# Altium integrated library Wurth_Elektronik_Passive_rev16a.IntLib: 1143 symbols (part 25 of 28)
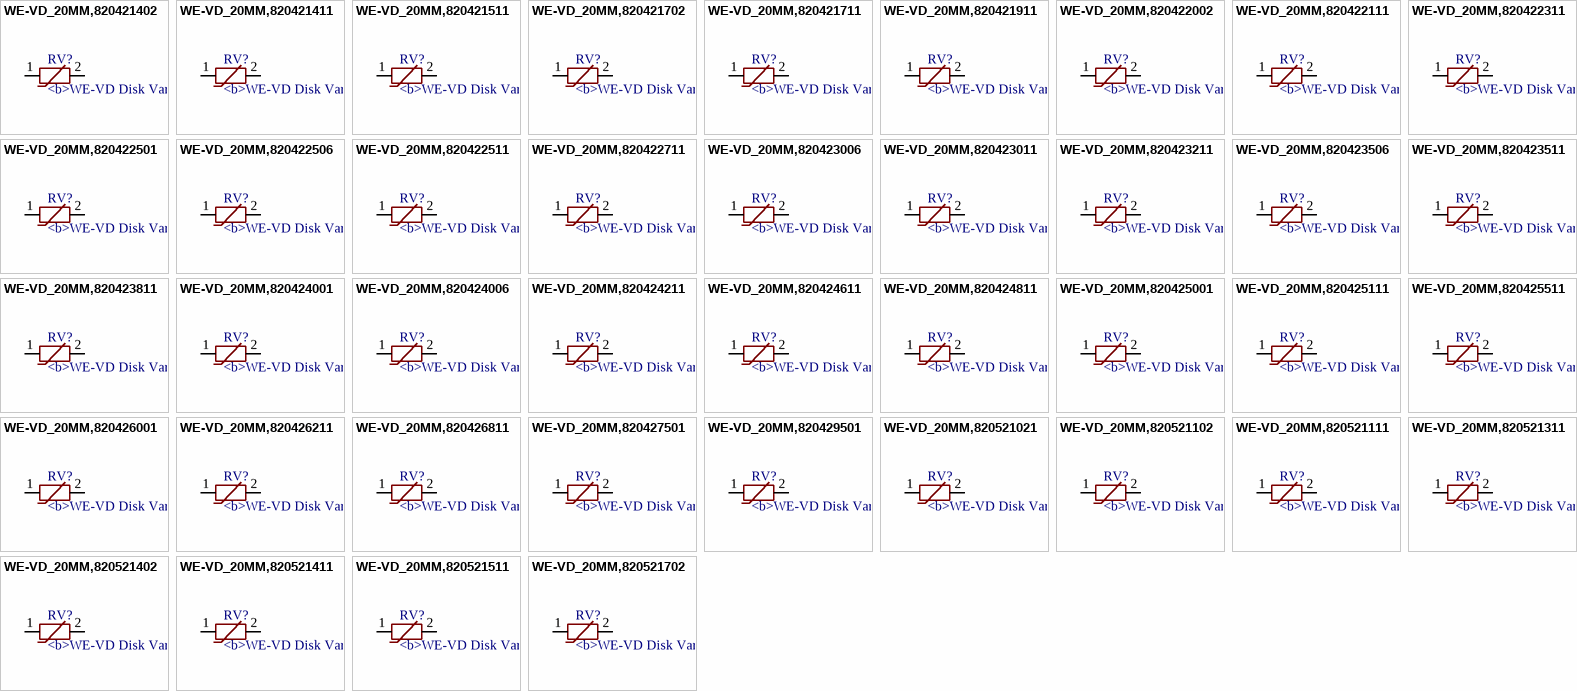
[diagram p82: symbols WE-VD_20MM,820421402 to WE-VD_20MM,820521702]

## WE-VD_20MM,820421511
designator RV?, comment <b>WE-VD Disk Varistor / <br> / <br> / <br><b>Characteristics / <br> / <br></b></b> Low clamping voltage / <br> / <br> After a surge impulse the varistor works immediately in normal mode so there is no slip current / <br> / <br> Excellent absorption at surge impulses / <br> / <br> Operating temperature: –40 ºC to +85 ºC for types up to 95 VRMS –40 ºC to +125 ºC for types from 115 VRMS / <br> / <br> Response time < 25 ns / <br> / <br> UL1449 3rd Edition, CSA and VDE approved UL: File E332875 CSA: File 224856 VDE: File 40016986 and 40016998 IEC: 60950-1: 2005 Annex Q from ∅ 10 mm / <br> / <br> / <br><b> Applications / <br> / <br></b> 12–48 VDC distribution / <br> / <br> 110–400 V power supply / <br> / <br> Leakage of voltage peaks / <br> / <br> Surge protection in accordance with EN 61000-4-5 / <br> / <br> / <br> / <br><a href="http://katalog.we-online.de/media/images/eisos/VarVD_pf2.jpg" title="Enlarge picture"> / <img src="http://katalog.we-online.de/media/images/eisos/VarVD_pf2.jpg" width="320"></a><p> / Details see: <a href="http://katalog.we-online.de/en/pbs/WE-VD?">http://katalog.we-online.de/en/pbs/WE-VD?</a><p> / Updated  by  Dan Xu 2014-07-11<br> / 2014 (C) Wurth Elektronik
MANUFACTURER: Würth Elektronik eiSos GmbH; CREATED-BY: Christin Zierenner; COMPANY-URL: http://www.we-online.de; CREATED-DATE: May 2012; DATASHEET-URL: http://katalog.we-online.de/kataloge/eisos/index.php?language=en&pf=WE-VD
footprint WE-VD_20MM-DIA
pins: 1, 2

## WE-VD_20MM,820421702
designator RV?, comment <b>WE-VD Disk Varistor / <br> / <br> / <br><b>Characteristics / <br> / <br></b></b> Low clamping voltage / <br> / <br> After a surge impulse the varistor works immediately in normal mode so there is no slip current / <br> / <br> Excellent absorption at surge impulses / <br> / <br> Operating temperature: –40 ºC to +85 ºC for types up to 95 VRMS –40 ºC to +125 ºC for types from 115 VRMS / <br> / <br> Response time < 25 ns / <br> / <br> UL1449 3rd Edition, CSA and VDE approved UL: File E332875 CSA: File 224856 VDE: File 40016986 and 40016998 IEC: 60950-1: 2005 Annex Q from ∅ 10 mm / <br> / <br> / <br><b> Applications / <br> / <br></b> 12–48 VDC distribution / <br> / <br> 110–400 V power supply / <br> / <br> Leakage of voltage peaks / <br> / <br> Surge protection in accordance with EN 61000-4-5 / <br> / <br> / <br> / <br><a href="http://katalog.we-online.de/media/images/eisos/VarVD_pf2.jpg" title="Enlarge picture"> / <img src="http://katalog.we-online.de/media/images/eisos/VarVD_pf2.jpg" width="320"></a><p> / Details see: <a href="http://katalog.we-online.de/en/pbs/WE-VD?">http://katalog.we-online.de/en/pbs/WE-VD?</a><p> / Updated  by  Dan Xu 2014-07-11<br> / 2014 (C) Wurth Elektronik
MANUFACTURER: Würth Elektronik eiSos GmbH; CREATED-BY: Christin Zierenner; COMPANY-URL: http://www.we-online.de; CREATED-DATE: May 2012; DATASHEET-URL: http://katalog.we-online.de/kataloge/eisos/index.php?language=en&pf=WE-VD
footprint WE-VD_20MM-DIA
pins: 1, 2

## WE-VD_20MM,820421711
designator RV?, comment <b>WE-VD Disk Varistor / <br> / <br> / <br><b>Characteristics / <br> / <br></b></b> Low clamping voltage / <br> / <br> After a surge impulse the varistor works immediately in normal mode so there is no slip current / <br> / <br> Excellent absorption at surge impulses / <br> / <br> Operating temperature: –40 ºC to +85 ºC for types up to 95 VRMS –40 ºC to +125 ºC for types from 115 VRMS / <br> / <br> Response time < 25 ns / <br> / <br> UL1449 3rd Edition, CSA and VDE approved UL: File E332875 CSA: File 224856 VDE: File 40016986 and 40016998 IEC: 60950-1: 2005 Annex Q from ∅ 10 mm / <br> / <br> / <br><b> Applications / <br> / <br></b> 12–48 VDC distribution / <br> / <br> 110–400 V power supply / <br> / <br> Leakage of voltage peaks / <br> / <br> Surge protection in accordance with EN 61000-4-5 / <br> / <br> / <br> / <br><a href="http://katalog.we-online.de/media/images/eisos/VarVD_pf2.jpg" title="Enlarge picture"> / <img src="http://katalog.we-online.de/media/images/eisos/VarVD_pf2.jpg" width="320"></a><p> / Details see: <a href="http://katalog.we-online.de/en/pbs/WE-VD?">http://katalog.we-online.de/en/pbs/WE-VD?</a><p> / Updated  by  Dan Xu 2014-07-11<br> / 2014 (C) Wurth Elektronik
MANUFACTURER: Würth Elektronik eiSos GmbH; CREATED-BY: Christin Zierenner; COMPANY-URL: http://www.we-online.de; CREATED-DATE: May 2012; DATASHEET-URL: http://katalog.we-online.de/kataloge/eisos/index.php?language=en&pf=WE-VD
footprint WE-VD_20MM-DIA
pins: 1, 2

## WE-VD_20MM,820421911
designator RV?, comment <b>WE-VD Disk Varistor / <br> / <br> / <br><b>Characteristics / <br> / <br></b></b> Low clamping voltage / <br> / <br> After a surge impulse the varistor works immediately in normal mode so there is no slip current / <br> / <br> Excellent absorption at surge impulses / <br> / <br> Operating temperature: –40 ºC to +85 ºC for types up to 95 VRMS –40 ºC to +125 ºC for types from 115 VRMS / <br> / <br> Response time < 25 ns / <br> / <br> UL1449 3rd Edition, CSA and VDE approved UL: File E332875 CSA: File 224856 VDE: File 40016986 and 40016998 IEC: 60950-1: 2005 Annex Q from ∅ 10 mm / <br> / <br> / <br><b> Applications / <br> / <br></b> 12–48 VDC distribution / <br> / <br> 110–400 V power supply / <br> / <br> Leakage of voltage peaks / <br> / <br> Surge protection in accordance with EN 61000-4-5 / <br> / <br> / <br> / <br><a href="http://katalog.we-online.de/media/images/eisos/VarVD_pf2.jpg" title="Enlarge picture"> / <img src="http://katalog.we-online.de/media/images/eisos/VarVD_pf2.jpg" width="320"></a><p> / Details see: <a href="http://katalog.we-online.de/en/pbs/WE-VD?">http://katalog.we-online.de/en/pbs/WE-VD?</a><p> / Updated  by  Dan Xu 2014-07-11<br> / 2014 (C) Wurth Elektronik
MANUFACTURER: Würth Elektronik eiSos GmbH; CREATED-BY: Christin Zierenner; COMPANY-URL: http://www.we-online.de; CREATED-DATE: May 2012; DATASHEET-URL: http://katalog.we-online.de/kataloge/eisos/index.php?language=en&pf=WE-VD
footprint WE-VD_20MM-DIA
pins: 1, 2

## WE-VD_20MM,820422002
designator RV?, comment <b>WE-VD Disk Varistor / <br> / <br> / <br><b>Characteristics / <br> / <br></b></b> Low clamping voltage / <br> / <br> After a surge impulse the varistor works immediately in normal mode so there is no slip current / <br> / <br> Excellent absorption at surge impulses / <br> / <br> Operating temperature: –40 ºC to +85 ºC for types up to 95 VRMS –40 ºC to +125 ºC for types from 115 VRMS / <br> / <br> Response time < 25 ns / <br> / <br> UL1449 3rd Edition, CSA and VDE approved UL: File E332875 CSA: File 224856 VDE: File 40016986 and 40016998 IEC: 60950-1: 2005 Annex Q from ∅ 10 mm / <br> / <br> / <br><b> Applications / <br> / <br></b> 12–48 VDC distribution / <br> / <br> 110–400 V power supply / <br> / <br> Leakage of voltage peaks / <br> / <br> Surge protection in accordance with EN 61000-4-5 / <br> / <br> / <br> / <br><a href="http://katalog.we-online.de/media/images/eisos/VarVD_pf2.jpg" title="Enlarge picture"> / <img src="http://katalog.we-online.de/media/images/eisos/VarVD_pf2.jpg" width="320"></a><p> / Details see: <a href="http://katalog.we-online.de/en/pbs/WE-VD?">http://katalog.we-online.de/en/pbs/WE-VD?</a><p> / Updated  by  Dan Xu 2014-07-11<br> / 2014 (C) Wurth Elektronik
MANUFACTURER: Würth Elektronik eiSos GmbH; CREATED-BY: Christin Zierenner; COMPANY-URL: http://www.we-online.de; CREATED-DATE: May 2012; DATASHEET-URL: http://katalog.we-online.de/kataloge/eisos/index.php?language=en&pf=WE-VD
footprint WE-VD_20MM-DIA
pins: 1, 2

## WE-VD_20MM,820422111
designator RV?, comment <b>WE-VD Disk Varistor / <br> / <br> / <br><b>Characteristics / <br> / <br></b></b> Low clamping voltage / <br> / <br> After a surge impulse the varistor works immediately in normal mode so there is no slip current / <br> / <br> Excellent absorption at surge impulses / <br> / <br> Operating temperature: –40 ºC to +85 ºC for types up to 95 VRMS –40 ºC to +125 ºC for types from 115 VRMS / <br> / <br> Response time < 25 ns / <br> / <br> UL1449 3rd Edition, CSA and VDE approved UL: File E332875 CSA: File 224856 VDE: File 40016986 and 40016998 IEC: 60950-1: 2005 Annex Q from ∅ 10 mm / <br> / <br> / <br><b> Applications / <br> / <br></b> 12–48 VDC distribution / <br> / <br> 110–400 V power supply / <br> / <br> Leakage of voltage peaks / <br> / <br> Surge protection in accordance with EN 61000-4-5 / <br> / <br> / <br> / <br><a href="http://katalog.we-online.de/media/images/eisos/VarVD_pf2.jpg" title="Enlarge picture"> / <img src="http://katalog.we-online.de/media/images/eisos/VarVD_pf2.jpg" width="320"></a><p> / Details see: <a href="http://katalog.we-online.de/en/pbs/WE-VD?">http://katalog.we-online.de/en/pbs/WE-VD?</a><p> / Updated  by  Dan Xu 2014-07-11<br> / 2014 (C) Wurth Elektronik
MANUFACTURER: Würth Elektronik eiSos GmbH; CREATED-BY: Christin Zierenner; COMPANY-URL: http://www.we-online.de; CREATED-DATE: May 2012; DATASHEET-URL: http://katalog.we-online.de/kataloge/eisos/index.php?language=en&pf=WE-VD
footprint WE-VD_20MM-DIA
pins: 1, 2

## WE-VD_20MM,820422311
designator RV?, comment <b>WE-VD Disk Varistor / <br> / <br> / <br><b>Characteristics / <br> / <br></b></b> Low clamping voltage / <br> / <br> After a surge impulse the varistor works immediately in normal mode so there is no slip current / <br> / <br> Excellent absorption at surge impulses / <br> / <br> Operating temperature: –40 ºC to +85 ºC for types up to 95 VRMS –40 ºC to +125 ºC for types from 115 VRMS / <br> / <br> Response time < 25 ns / <br> / <br> UL1449 3rd Edition, CSA and VDE approved UL: File E332875 CSA: File 224856 VDE: File 40016986 and 40016998 IEC: 60950-1: 2005 Annex Q from ∅ 10 mm / <br> / <br> / <br><b> Applications / <br> / <br></b> 12–48 VDC distribution / <br> / <br> 110–400 V power supply / <br> / <br> Leakage of voltage peaks / <br> / <br> Surge protection in accordance with EN 61000-4-5 / <br> / <br> / <br> / <br><a href="http://katalog.we-online.de/media/images/eisos/VarVD_pf2.jpg" title="Enlarge picture"> / <img src="http://katalog.we-online.de/media/images/eisos/VarVD_pf2.jpg" width="320"></a><p> / Details see: <a href="http://katalog.we-online.de/en/pbs/WE-VD?">http://katalog.we-online.de/en/pbs/WE-VD?</a><p> / Updated  by  Dan Xu 2014-07-11<br> / 2014 (C) Wurth Elektronik
MANUFACTURER: Würth Elektronik eiSos GmbH; CREATED-BY: Christin Zierenner; COMPANY-URL: http://www.we-online.de; CREATED-DATE: May 2012; DATASHEET-URL: http://katalog.we-online.de/kataloge/eisos/index.php?language=en&pf=WE-VD
footprint WE-VD_20MM-DIA
pins: 1, 2

## WE-VD_20MM,820422501
designator RV?, comment <b>WE-VD Disk Varistor / <br> / <br> / <br><b>Characteristics / <br> / <br></b></b> Low clamping voltage / <br> / <br> After a surge impulse the varistor works immediately in normal mode so there is no slip current / <br> / <br> Excellent absorption at surge impulses / <br> / <br> Operating temperature: –40 ºC to +85 ºC for types up to 95 VRMS –40 ºC to +125 ºC for types from 115 VRMS / <br> / <br> Response time < 25 ns / <br> / <br> UL1449 3rd Edition, CSA and VDE approved UL: File E332875 CSA: File 224856 VDE: File 40016986 and 40016998 IEC: 60950-1: 2005 Annex Q from ∅ 10 mm / <br> / <br> / <br><b> Applications / <br> / <br></b> 12–48 VDC distribution / <br> / <br> 110–400 V power supply / <br> / <br> Leakage of voltage peaks / <br> / <br> Surge protection in accordance with EN 61000-4-5 / <br> / <br> / <br> / <br><a href="http://katalog.we-online.de/media/images/eisos/VarVD_pf2.jpg" title="Enlarge picture"> / <img src="http://katalog.we-online.de/media/images/eisos/VarVD_pf2.jpg" width="320"></a><p> / Details see: <a href="http://katalog.we-online.de/en/pbs/WE-VD?">http://katalog.we-online.de/en/pbs/WE-VD?</a><p> / Updated  by  Dan Xu 2014-07-11<br> / 2014 (C) Wurth Elektronik
MANUFACTURER: Würth Elektronik eiSos GmbH; CREATED-BY: Christin Zierenner; COMPANY-URL: http://www.we-online.de; CREATED-DATE: May 2012; DATASHEET-URL: http://katalog.we-online.de/kataloge/eisos/index.php?language=en&pf=WE-VD
footprint WE-VD_20MM-DIA
pins: 1, 2

## WE-VD_20MM,820422506
designator RV?, comment <b>WE-VD Disk Varistor / <br> / <br> / <br><b>Characteristics / <br> / <br></b></b> Low clamping voltage / <br> / <br> After a surge impulse the varistor works immediately in normal mode so there is no slip current / <br> / <br> Excellent absorption at surge impulses / <br> / <br> Operating temperature: –40 ºC to +85 ºC for types up to 95 VRMS –40 ºC to +125 ºC for types from 115 VRMS / <br> / <br> Response time < 25 ns / <br> / <br> UL1449 3rd Edition, CSA and VDE approved UL: File E332875 CSA: File 224856 VDE: File 40016986 and 40016998 IEC: 60950-1: 2005 Annex Q from ∅ 10 mm / <br> / <br> / <br><b> Applications / <br> / <br></b> 12–48 VDC distribution / <br> / <br> 110–400 V power supply / <br> / <br> Leakage of voltage peaks / <br> / <br> Surge protection in accordance with EN 61000-4-5 / <br> / <br> / <br> / <br><a href="http://katalog.we-online.de/media/images/eisos/VarVD_pf2.jpg" title="Enlarge picture"> / <img src="http://katalog.we-online.de/media/images/eisos/VarVD_pf2.jpg" width="320"></a><p> / Details see: <a href="http://katalog.we-online.de/en/pbs/WE-VD?">http://katalog.we-online.de/en/pbs/WE-VD?</a><p> / Updated  by  Dan Xu 2014-07-11<br> / 2014 (C) Wurth Elektronik
MANUFACTURER: Würth Elektronik eiSos GmbH; CREATED-BY: Christin Zierenner; COMPANY-URL: http://www.we-online.de; CREATED-DATE: May 2012; DATASHEET-URL: http://katalog.we-online.de/kataloge/eisos/index.php?language=en&pf=WE-VD
footprint WE-VD_20MM-DIA
pins: 1, 2

## WE-VD_20MM,820422511
designator RV?, comment <b>WE-VD Disk Varistor / <br> / <br> / <br><b>Characteristics / <br> / <br></b></b> Low clamping voltage / <br> / <br> After a surge impulse the varistor works immediately in normal mode so there is no slip current / <br> / <br> Excellent absorption at surge impulses / <br> / <br> Operating temperature: –40 ºC to +85 ºC for types up to 95 VRMS –40 ºC to +125 ºC for types from 115 VRMS / <br> / <br> Response time < 25 ns / <br> / <br> UL1449 3rd Edition, CSA and VDE approved UL: File E332875 CSA: File 224856 VDE: File 40016986 and 40016998 IEC: 60950-1: 2005 Annex Q from ∅ 10 mm / <br> / <br> / <br><b> Applications / <br> / <br></b> 12–48 VDC distribution / <br> / <br> 110–400 V power supply / <br> / <br> Leakage of voltage peaks / <br> / <br> Surge protection in accordance with EN 61000-4-5 / <br> / <br> / <br> / <br><a href="http://katalog.we-online.de/media/images/eisos/VarVD_pf2.jpg" title="Enlarge picture"> / <img src="http://katalog.we-online.de/media/images/eisos/VarVD_pf2.jpg" width="320"></a><p> / Details see: <a href="http://katalog.we-online.de/en/pbs/WE-VD?">http://katalog.we-online.de/en/pbs/WE-VD?</a><p> / Updated  by  Dan Xu 2014-07-11<br> / 2014 (C) Wurth Elektronik
MANUFACTURER: Würth Elektronik eiSos GmbH; CREATED-BY: Christin Zierenner; COMPANY-URL: http://www.we-online.de; CREATED-DATE: May 2012; DATASHEET-URL: http://katalog.we-online.de/kataloge/eisos/index.php?language=en&pf=WE-VD
footprint WE-VD_20MM-0.9
pins: 1, 2

## WE-VD_20MM,820422711
designator RV?, comment <b>WE-VD Disk Varistor / <br> / <br> / <br><b>Characteristics / <br> / <br></b></b> Low clamping voltage / <br> / <br> After a surge impulse the varistor works immediately in normal mode so there is no slip current / <br> / <br> Excellent absorption at surge impulses / <br> / <br> Operating temperature: –40 ºC to +85 ºC for types up to 95 VRMS –40 ºC to +125 ºC for types from 115 VRMS / <br> / <br> Response time < 25 ns / <br> / <br> UL1449 3rd Edition, CSA and VDE approved UL: File E332875 CSA: File 224856 VDE: File 40016986 and 40016998 IEC: 60950-1: 2005 Annex Q from ∅ 10 mm / <br> / <br> / <br><b> Applications / <br> / <br></b> 12–48 VDC distribution / <br> / <br> 110–400 V power supply / <br> / <br> Leakage of voltage peaks / <br> / <br> Surge protection in accordance with EN 61000-4-5 / <br> / <br> / <br> / <br><a href="http://katalog.we-online.de/media/images/eisos/VarVD_pf2.jpg" title="Enlarge picture"> / <img src="http://katalog.we-online.de/media/images/eisos/VarVD_pf2.jpg" width="320"></a><p> / Details see: <a href="http://katalog.we-online.de/en/pbs/WE-VD?">http://katalog.we-online.de/en/pbs/WE-VD?</a><p> / Updated  by  Dan Xu 2014-07-11<br> / 2014 (C) Wurth Elektronik
MANUFACTURER: Würth Elektronik eiSos GmbH; CREATED-BY: Christin Zierenner; COMPANY-URL: http://www.we-online.de; CREATED-DATE: May 2012; DATASHEET-URL: http://katalog.we-online.de/kataloge/eisos/media/pdf/820422711.pdf
footprint WE-VD_20MM-1.1
pins: 1, 2

## WE-VD_20MM,820423006
designator RV?, comment <b>WE-VD Disk Varistor / <br> / <br> / <br><b>Characteristics / <br> / <br></b></b> Low clamping voltage / <br> / <br> After a surge impulse the varistor works immediately in normal mode so there is no slip current / <br> / <br> Excellent absorption at surge impulses / <br> / <br> Operating temperature: –40 ºC to +85 ºC for types up to 95 VRMS –40 ºC to +125 ºC for types from 115 VRMS / <br> / <br> Response time < 25 ns / <br> / <br> UL1449 3rd Edition, CSA and VDE approved UL: File E332875 CSA: File 224856 VDE: File 40016986 and 40016998 IEC: 60950-1: 2005 Annex Q from ∅ 10 mm / <br> / <br> / <br><b> Applications / <br> / <br></b> 12–48 VDC distribution / <br> / <br> 110–400 V power supply / <br> / <br> Leakage of voltage peaks / <br> / <br> Surge protection in accordance with EN 61000-4-5 / <br> / <br> / <br> / <br><a href="http://katalog.we-online.de/media/images/eisos/VarVD_pf2.jpg" title="Enlarge picture"> / <img src="http://katalog.we-online.de/media/images/eisos/VarVD_pf2.jpg" width="320"></a><p> / Details see: <a href="http://katalog.we-online.de/en/pbs/WE-VD?">http://katalog.we-online.de/en/pbs/WE-VD?</a><p> / Updated  by  Dan Xu 2014-07-11<br> / 2014 (C) Wurth Elektronik
MANUFACTURER: Würth Elektronik eiSos GmbH; CREATED-BY: Christin Zierenner; COMPANY-URL: http://www.we-online.de; CREATED-DATE: May 2012; DATASHEET-URL: http://katalog.we-online.de/kataloge/eisos/index.php?language=en&pf=WE-VD
footprint WE-VD_20MM-DIA
pins: 1, 2

## WE-VD_20MM,820423011
designator RV?, comment <b>WE-VD Disk Varistor / <br> / <br> / <br><b>Characteristics / <br> / <br></b></b> Low clamping voltage / <br> / <br> After a surge impulse the varistor works immediately in normal mode so there is no slip current / <br> / <br> Excellent absorption at surge impulses / <br> / <br> Operating temperature: –40 ºC to +85 ºC for types up to 95 VRMS –40 ºC to +125 ºC for types from 115 VRMS / <br> / <br> Response time < 25 ns / <br> / <br> UL1449 3rd Edition, CSA and VDE approved UL: File E332875 CSA: File 224856 VDE: File 40016986 and 40016998 IEC: 60950-1: 2005 Annex Q from ∅ 10 mm / <br> / <br> / <br><b> Applications / <br> / <br></b> 12–48 VDC distribution / <br> / <br> 110–400 V power supply / <br> / <br> Leakage of voltage peaks / <br> / <br> Surge protection in accordance with EN 61000-4-5 / <br> / <br> / <br> / <br><a href="http://katalog.we-online.de/media/images/eisos/VarVD_pf2.jpg" title="Enlarge picture"> / <img src="http://katalog.we-online.de/media/images/eisos/VarVD_pf2.jpg" width="320"></a><p> / Details see: <a href="http://katalog.we-online.de/en/pbs/WE-VD?">http://katalog.we-online.de/en/pbs/WE-VD?</a><p> / Updated  by  Dan Xu 2014-07-11<br> / 2014 (C) Wurth Elektronik
MANUFACTURER: Würth Elektronik eiSos GmbH; CREATED-BY: Christin Zierenner; COMPANY-URL: http://www.we-online.de; CREATED-DATE: May 2012; DATASHEET-URL: http://katalog.we-online.de/kataloge/eisos/index.php?language=en&pf=WE-VD
footprint WE-VD_20MM-1.3
pins: 1, 2

## WE-VD_20MM,820423211
designator RV?, comment <b>WE-VD Disk Varistor / <br> / <br> / <br><b>Characteristics / <br> / <br></b></b> Low clamping voltage / <br> / <br> After a surge impulse the varistor works immediately in normal mode so there is no slip current / <br> / <br> Excellent absorption at surge impulses / <br> / <br> Operating temperature: –40 ºC to +85 ºC for types up to 95 VRMS –40 ºC to +125 ºC for types from 115 VRMS / <br> / <br> Response time < 25 ns / <br> / <br> UL1449 3rd Edition, CSA and VDE approved UL: File E332875 CSA: File 224856 VDE: File 40016986 and 40016998 IEC: 60950-1: 2005 Annex Q from ∅ 10 mm / <br> / <br> / <br><b> Applications / <br> / <br></b> 12–48 VDC distribution / <br> / <br> 110–400 V power supply / <br> / <br> Leakage of voltage peaks / <br> / <br> Surge protection in accordance with EN 61000-4-5 / <br> / <br> / <br> / <br><a href="http://katalog.we-online.de/media/images/eisos/VarVD_pf2.jpg" title="Enlarge picture"> / <img src="http://katalog.we-online.de/media/images/eisos/VarVD_pf2.jpg" width="320"></a><p> / Details see: <a href="http://katalog.we-online.de/en/pbs/WE-VD?">http://katalog.we-online.de/en/pbs/WE-VD?</a><p> / Updated  by  Dan Xu 2014-07-11<br> / 2014 (C) Wurth Elektronik
MANUFACTURER: Würth Elektronik eiSos GmbH; CREATED-BY: Christin Zierenner; COMPANY-URL: http://www.we-online.de; CREATED-DATE: May 2012; DATASHEET-URL: http://katalog.we-online.de/kataloge/eisos/media/pdf/820423211.pdf
footprint WE-VD_20MM-1.5
pins: 1, 2

## WE-VD_20MM,820423506
designator RV?, comment <b>WE-VD Disk Varistor / <br> / <br> / <br><b>Characteristics / <br> / <br></b></b> Low clamping voltage / <br> / <br> After a surge impulse the varistor works immediately in normal mode so there is no slip current / <br> / <br> Excellent absorption at surge impulses / <br> / <br> Operating temperature: –40 ºC to +85 ºC for types up to 95 VRMS –40 ºC to +125 ºC for types from 115 VRMS / <br> / <br> Response time < 25 ns / <br> / <br> UL1449 3rd Edition, CSA and VDE approved UL: File E332875 CSA: File 224856 VDE: File 40016986 and 40016998 IEC: 60950-1: 2005 Annex Q from ∅ 10 mm / <br> / <br> / <br><b> Applications / <br> / <br></b> 12–48 VDC distribution / <br> / <br> 110–400 V power supply / <br> / <br> Leakage of voltage peaks / <br> / <br> Surge protection in accordance with EN 61000-4-5 / <br> / <br> / <br> / <br><a href="http://katalog.we-online.de/media/images/eisos/VarVD_pf2.jpg" title="Enlarge picture"> / <img src="http://katalog.we-online.de/media/images/eisos/VarVD_pf2.jpg" width="320"></a><p> / Details see: <a href="http://katalog.we-online.de/en/pbs/WE-VD?">http://katalog.we-online.de/en/pbs/WE-VD?</a><p> / Updated  by  Dan Xu 2014-07-11<br> / 2014 (C) Wurth Elektronik
MANUFACTURER: Würth Elektronik eiSos GmbH; CREATED-BY: Christin Zierenner; COMPANY-URL: http://www.we-online.de; CREATED-DATE: May 2012; DATASHEET-URL: http://katalog.we-online.de/kataloge/eisos/index.php?language=en&pf=WE-VD
footprint WE-VD_20MM-DIA
pins: 1, 2

## WE-VD_20MM,820423511
designator RV?, comment <b>WE-VD Disk Varistor / <br> / <br> / <br><b>Characteristics / <br> / <br></b></b> Low clamping voltage / <br> / <br> After a surge impulse the varistor works immediately in normal mode so there is no slip current / <br> / <br> Excellent absorption at surge impulses / <br> / <br> Operating temperature: –40 ºC to +85 ºC for types up to 95 VRMS –40 ºC to +125 ºC for types from 115 VRMS / <br> / <br> Response time < 25 ns / <br> / <br> UL1449 3rd Edition, CSA and VDE approved UL: File E332875 CSA: File 224856 VDE: File 40016986 and 40016998 IEC: 60950-1: 2005 Annex Q from ∅ 10 mm / <br> / <br> / <br><b> Applications / <br> / <br></b> 12–48 VDC distribution / <br> / <br> 110–400 V power supply / <br> / <br> Leakage of voltage peaks / <br> / <br> Surge protection in accordance with EN 61000-4-5 / <br> / <br> / <br> / <br><a href="http://katalog.we-online.de/media/images/eisos/VarVD_pf2.jpg" title="Enlarge picture"> / <img src="http://katalog.we-online.de/media/images/eisos/VarVD_pf2.jpg" width="320"></a><p> / Details see: <a href="http://katalog.we-online.de/en/pbs/WE-VD?">http://katalog.we-online.de/en/pbs/WE-VD?</a><p> / Updated  by  Dan Xu 2014-07-11<br> / 2014 (C) Wurth Elektronik
MANUFACTURER: Würth Elektronik eiSos GmbH; CREATED-BY: Christin Zierenner; COMPANY-URL: http://www.we-online.de; CREATED-DATE: May 2012; DATASHEET-URL: http://katalog.we-online.de/kataloge/eisos/index.php?language=en&pf=WE-VD
footprint WE-VD_20MM-1.7
pins: 1, 2

## WE-VD_20MM,820423811
designator RV?, comment <b>WE-VD Disk Varistor / <br> / <br> / <br><b>Characteristics / <br> / <br></b></b> Low clamping voltage / <br> / <br> After a surge impulse the varistor works immediately in normal mode so there is no slip current / <br> / <br> Excellent absorption at surge impulses / <br> / <br> Operating temperature: –40 ºC to +85 ºC for types up to 95 VRMS –40 ºC to +125 ºC for types from 115 VRMS / <br> / <br> Response time < 25 ns / <br> / <br> UL1449 3rd Edition, CSA and VDE approved UL: File E332875 CSA: File 224856 VDE: File 40016986 and 40016998 IEC: 60950-1: 2005 Annex Q from ∅ 10 mm / <br> / <br> / <br><b> Applications / <br> / <br></b> 12–48 VDC distribution / <br> / <br> 110–400 V power supply / <br> / <br> Leakage of voltage peaks / <br> / <br> Surge protection in accordance with EN 61000-4-5 / <br> / <br> / <br> / <br><a href="http://katalog.we-online.de/media/images/eisos/VarVD_pf2.jpg" title="Enlarge picture"> / <img src="http://katalog.we-online.de/media/images/eisos/VarVD_pf2.jpg" width="320"></a><p> / Details see: <a href="http://katalog.we-online.de/en/pbs/WE-VD?">http://katalog.we-online.de/en/pbs/WE-VD?</a><p> / Updated  by  Dan Xu 2014-07-11<br> / 2014 (C) Wurth Elektronik
MANUFACTURER: Würth Elektronik eiSos GmbH; CREATED-BY: Christin Zierenner; COMPANY-URL: http://www.we-online.de; CREATED-DATE: May 2012; DATASHEET-URL: http://katalog.we-online.de/kataloge/eisos/index.php?language=en&pf=WE-VD
footprint WE-VD_20MM-2.0
pins: 1, 2

## WE-VD_20MM,820424001
designator RV?, comment <b>WE-VD Disk Varistor / <br> / <br> / <br><b>Characteristics / <br> / <br></b></b> Low clamping voltage / <br> / <br> After a surge impulse the varistor works immediately in normal mode so there is no slip current / <br> / <br> Excellent absorption at surge impulses / <br> / <br> Operating temperature: –40 ºC to +85 ºC for types up to 95 VRMS –40 ºC to +125 ºC for types from 115 VRMS / <br> / <br> Response time < 25 ns / <br> / <br> UL1449 3rd Edition, CSA and VDE approved UL: File E332875 CSA: File 224856 VDE: File 40016986 and 40016998 IEC: 60950-1: 2005 Annex Q from ∅ 10 mm / <br> / <br> / <br><b> Applications / <br> / <br></b> 12–48 VDC distribution / <br> / <br> 110–400 V power supply / <br> / <br> Leakage of voltage peaks / <br> / <br> Surge protection in accordance with EN 61000-4-5 / <br> / <br> / <br> / <br><a href="http://katalog.we-online.de/media/images/eisos/VarVD_pf2.jpg" title="Enlarge picture"> / <img src="http://katalog.we-online.de/media/images/eisos/VarVD_pf2.jpg" width="320"></a><p> / Details see: <a href="http://katalog.we-online.de/en/pbs/WE-VD?">http://katalog.we-online.de/en/pbs/WE-VD?</a><p> / Updated  by  Dan Xu 2014-07-11<br> / 2014 (C) Wurth Elektronik
MANUFACTURER: Würth Elektronik eiSos GmbH; CREATED-BY: Christin Zierenner; COMPANY-URL: http://www.we-online.de; CREATED-DATE: May 2012; DATASHEET-URL: http://katalog.we-online.de/kataloge/eisos/index.php?language=en&pf=WE-VD
footprint WE-VD_20MM-1.1
pins: 1, 2

## WE-VD_20MM,820424006
designator RV?, comment <b>WE-VD Disk Varistor / <br> / <br> / <br><b>Characteristics / <br> / <br></b></b> Low clamping voltage / <br> / <br> After a surge impulse the varistor works immediately in normal mode so there is no slip current / <br> / <br> Excellent absorption at surge impulses / <br> / <br> Operating temperature: –40 ºC to +85 ºC for types up to 95 VRMS –40 ºC to +125 ºC for types from 115 VRMS / <br> / <br> Response time < 25 ns / <br> / <br> UL1449 3rd Edition, CSA and VDE approved UL: File E332875 CSA: File 224856 VDE: File 40016986 and 40016998 IEC: 60950-1: 2005 Annex Q from ∅ 10 mm / <br> / <br> / <br><b> Applications / <br> / <br></b> 12–48 VDC distribution / <br> / <br> 110–400 V power supply / <br> / <br> Leakage of voltage peaks / <br> / <br> Surge protection in accordance with EN 61000-4-5 / <br> / <br> / <br> / <br><a href="http://katalog.we-online.de/media/images/eisos/VarVD_pf2.jpg" title="Enlarge picture"> / <img src="http://katalog.we-online.de/media/images/eisos/VarVD_pf2.jpg" width="320"></a><p> / Details see: <a href="http://katalog.we-online.de/en/pbs/WE-VD?">http://katalog.we-online.de/en/pbs/WE-VD?</a><p> / Updated  by  Dan Xu 2014-07-11<br> / 2014 (C) Wurth Elektronik
MANUFACTURER: Würth Elektronik eiSos GmbH; CREATED-BY: Christin Zierenner; COMPANY-URL: http://www.we-online.de; CREATED-DATE: May 2012; DATASHEET-URL: http://katalog.we-online.de/kataloge/eisos/index.php?language=en&pf=WE-VD
footprint WE-VD_20MM-1.1
pins: 1, 2

## WE-VD_20MM,820424211
designator RV?, comment <b>WE-VD Disk Varistor / <br> / <br> / <br><b>Characteristics / <br> / <br></b></b> Low clamping voltage / <br> / <br> After a surge impulse the varistor works immediately in normal mode so there is no slip current / <br> / <br> Excellent absorption at surge impulses / <br> / <br> Operating temperature: –40 ºC to +85 ºC for types up to 95 VRMS –40 ºC to +125 ºC for types from 115 VRMS / <br> / <br> Response time < 25 ns / <br> / <br> UL1449 3rd Edition, CSA and VDE approved UL: File E332875 CSA: File 224856 VDE: File 40016986 and 40016998 IEC: 60950-1: 2005 Annex Q from ∅ 10 mm / <br> / <br> / <br><b> Applications / <br> / <br></b> 12–48 VDC distribution / <br> / <br> 110–400 V power supply / <br> / <br> Leakage of voltage peaks / <br> / <br> Surge protection in accordance with EN 61000-4-5 / <br> / <br> / <br> / <br><a href="http://katalog.we-online.de/media/images/eisos/VarVD_pf2.jpg" title="Enlarge picture"> / <img src="http://katalog.we-online.de/media/images/eisos/VarVD_pf2.jpg" width="320"></a><p> / Details see: <a href="http://katalog.we-online.de/en/pbs/WE-VD?">http://katalog.we-online.de/en/pbs/WE-VD?</a><p> / Updated  by  Dan Xu 2014-07-11<br> / 2014 (C) Wurth Elektronik
MANUFACTURER: Würth Elektronik eiSos GmbH; CREATED-BY: Christin Zierenner; COMPANY-URL: http://www.we-online.de; CREATED-DATE: May 2012; DATASHEET-URL: http://katalog.we-online.de/kataloge/eisos/index.php?language=en&pf=WE-VD
footprint WE-VD_20MM-2.3
pins: 1, 2

## WE-VD_20MM,820424611
designator RV?, comment <b>WE-VD Disk Varistor / <br> / <br> / <br><b>Characteristics / <br> / <br></b></b> Low clamping voltage / <br> / <br> After a surge impulse the varistor works immediately in normal mode so there is no slip current / <br> / <br> Excellent absorption at surge impulses / <br> / <br> Operating temperature: –40 ºC to +85 ºC for types up to 95 VRMS –40 ºC to +125 ºC for types from 115 VRMS / <br> / <br> Response time < 25 ns / <br> / <br> UL1449 3rd Edition, CSA and VDE approved UL: File E332875 CSA: File 224856 VDE: File 40016986 and 40016998 IEC: 60950-1: 2005 Annex Q from ∅ 10 mm / <br> / <br> / <br><b> Applications / <br> / <br></b> 12–48 VDC distribution / <br> / <br> 110–400 V power supply / <br> / <br> Leakage of voltage peaks / <br> / <br> Surge protection in accordance with EN 61000-4-5 / <br> / <br> / <br> / <br><a href="http://katalog.we-online.de/media/images/eisos/VarVD_pf2.jpg" title="Enlarge picture"> / <img src="http://katalog.we-online.de/media/images/eisos/VarVD_pf2.jpg" width="320"></a><p> / Details see: <a href="http://katalog.we-online.de/en/pbs/WE-VD?">http://katalog.we-online.de/en/pbs/WE-VD?</a><p> / Updated  by  Dan Xu 2014-07-11<br> / 2014 (C) Wurth Elektronik
MANUFACTURER: Würth Elektronik eiSos GmbH; CREATED-BY: Christin Zierenner; COMPANY-URL: http://www.we-online.de; CREATED-DATE: May 2012; DATASHEET-URL: http://katalog.we-online.de/kataloge/eisos/index.php?language=en&pf=WE-VD
footprint WE-VD_20MM-2.6
pins: 1, 2

## WE-VD_20MM,820424811
designator RV?, comment <b>WE-VD Disk Varistor / <br> / <br> / <br><b>Characteristics / <br> / <br></b></b> Low clamping voltage / <br> / <br> After a surge impulse the varistor works immediately in normal mode so there is no slip current / <br> / <br> Excellent absorption at surge impulses / <br> / <br> Operating temperature: –40 ºC to +85 ºC for types up to 95 VRMS –40 ºC to +125 ºC for types from 115 VRMS / <br> / <br> Response time < 25 ns / <br> / <br> UL1449 3rd Edition, CSA and VDE approved UL: File E332875 CSA: File 224856 VDE: File 40016986 and 40016998 IEC: 60950-1: 2005 Annex Q from ∅ 10 mm / <br> / <br> / <br><b> Applications / <br> / <br></b> 12–48 VDC distribution / <br> / <br> 110–400 V power supply / <br> / <br> Leakage of voltage peaks / <br> / <br> Surge protection in accordance with EN 61000-4-5 / <br> / <br> / <br> / <br><a href="http://katalog.we-online.de/media/images/eisos/VarVD_pf2.jpg" title="Enlarge picture"> / <img src="http://katalog.we-online.de/media/images/eisos/VarVD_pf2.jpg" width="320"></a><p> / Details see: <a href="http://katalog.we-online.de/en/pbs/WE-VD?">http://katalog.we-online.de/en/pbs/WE-VD?</a><p> / Updated  by  Dan Xu 2014-07-11<br> / 2014 (C) Wurth Elektronik
MANUFACTURER: Würth Elektronik eiSos GmbH; CREATED-BY: Christin Zierenner; COMPANY-URL: http://www.we-online.de; CREATED-DATE: May 2012; DATASHEET-URL: http://katalog.we-online.de/kataloge/eisos/index.php?language=en&pf=WE-VD
footprint WE-VD_20MM-2.8
pins: 1, 2

## WE-VD_20MM,820425001
designator RV?, comment <b>WE-VD Disk Varistor / <br> / <br> / <br><b>Characteristics / <br> / <br></b></b> Low clamping voltage / <br> / <br> After a surge impulse the varistor works immediately in normal mode so there is no slip current / <br> / <br> Excellent absorption at surge impulses / <br> / <br> Operating temperature: –40 ºC to +85 ºC for types up to 95 VRMS –40 ºC to +125 ºC for types from 115 VRMS / <br> / <br> Response time < 25 ns / <br> / <br> UL1449 3rd Edition, CSA and VDE approved UL: File E332875 CSA: File 224856 VDE: File 40016986 and 40016998 IEC: 60950-1: 2005 Annex Q from ∅ 10 mm / <br> / <br> / <br><b> Applications / <br> / <br></b> 12–48 VDC distribution / <br> / <br> 110–400 V power supply / <br> / <br> Leakage of voltage peaks / <br> / <br> Surge protection in accordance with EN 61000-4-5 / <br> / <br> / <br> / <br><a href="http://katalog.we-online.de/media/images/eisos/VarVD_pf2.jpg" title="Enlarge picture"> / <img src="http://katalog.we-online.de/media/images/eisos/VarVD_pf2.jpg" width="320"></a><p> / Details see: <a href="http://katalog.we-online.de/en/pbs/WE-VD?">http://katalog.we-online.de/en/pbs/WE-VD?</a><p> / Updated  by  Dan Xu 2014-07-11<br> / 2014 (C) Wurth Elektronik
MANUFACTURER: Würth Elektronik eiSos GmbH; CREATED-BY: Christin Zierenner; COMPANY-URL: http://www.we-online.de; CREATED-DATE: May 2012; DATASHEET-URL: http://katalog.we-online.de/kataloge/eisos/index.php?language=en&pf=WE-VD
footprint WE-VD_20MM-1.2
pins: 1, 2

## WE-VD_20MM,820425111
designator RV?, comment <b>WE-VD Disk Varistor / <br> / <br> / <br><b>Characteristics / <br> / <br></b></b> Low clamping voltage / <br> / <br> After a surge impulse the varistor works immediately in normal mode so there is no slip current / <br> / <br> Excellent absorption at surge impulses / <br> / <br> Operating temperature: –40 ºC to +85 ºC for types up to 95 VRMS –40 ºC to +125 ºC for types from 115 VRMS / <br> / <br> Response time < 25 ns / <br> / <br> UL1449 3rd Edition, CSA and VDE approved UL: File E332875 CSA: File 224856 VDE: File 40016986 and 40016998 IEC: 60950-1: 2005 Annex Q from ∅ 10 mm / <br> / <br> / <br><b> Applications / <br> / <br></b> 12–48 VDC distribution / <br> / <br> 110–400 V power supply / <br> / <br> Leakage of voltage peaks / <br> / <br> Surge protection in accordance with EN 61000-4-5 / <br> / <br> / <br> / <br><a href="http://katalog.we-online.de/media/images/eisos/VarVD_pf2.jpg" title="Enlarge picture"> / <img src="http://katalog.we-online.de/media/images/eisos/VarVD_pf2.jpg" width="320"></a><p> / Details see: <a href="http://katalog.we-online.de/en/pbs/WE-VD?">http://katalog.we-online.de/en/pbs/WE-VD?</a><p> / Updated  by  Dan Xu 2014-07-11<br> / 2014 (C) Wurth Elektronik
MANUFACTURER: Würth Elektronik eiSos GmbH; CREATED-BY: Christin Zierenner; COMPANY-URL: http://www.we-online.de; CREATED-DATE: May 2012; DATASHEET-URL: http://katalog.we-online.de/kataloge/eisos/index.php?language=en&pf=WE-VD
footprint WE-VD_20MM-2.9
pins: 1, 2

## WE-VD_20MM,820425511
designator RV?, comment <b>WE-VD Disk Varistor / <br> / <br> / <br><b>Characteristics / <br> / <br></b></b> Low clamping voltage / <br> / <br> After a surge impulse the varistor works immediately in normal mode so there is no slip current / <br> / <br> Excellent absorption at surge impulses / <br> / <br> Operating temperature: –40 ºC to +85 ºC for types up to 95 VRMS –40 ºC to +125 ºC for types from 115 VRMS / <br> / <br> Response time < 25 ns / <br> / <br> UL1449 3rd Edition, CSA and VDE approved UL: File E332875 CSA: File 224856 VDE: File 40016986 and 40016998 IEC: 60950-1: 2005 Annex Q from ∅ 10 mm / <br> / <br> / <br><b> Applications / <br> / <br></b> 12–48 VDC distribution / <br> / <br> 110–400 V power supply / <br> / <br> Leakage of voltage peaks / <br> / <br> Surge protection in accordance with EN 61000-4-5 / <br> / <br> / <br> / <br><a href="http://katalog.we-online.de/media/images/eisos/VarVD_pf2.jpg" title="Enlarge picture"> / <img src="http://katalog.we-online.de/media/images/eisos/VarVD_pf2.jpg" width="320"></a><p> / Details see: <a href="http://katalog.we-online.de/en/pbs/WE-VD?">http://katalog.we-online.de/en/pbs/WE-VD?</a><p> / Updated  by  Dan Xu 2014-07-11<br> / 2014 (C) Wurth Elektronik
MANUFACTURER: Würth Elektronik eiSos GmbH; CREATED-BY: Christin Zierenner; COMPANY-URL: http://www.we-online.de; CREATED-DATE: May 2012; DATASHEET-URL: http://katalog.we-online.de/kataloge/eisos/media/pdf/820425511.pdf
footprint WE-VD_20MM-3.4
pins: 1, 2

## WE-VD_20MM,820426001
designator RV?, comment <b>WE-VD Disk Varistor / <br> / <br> / <br><b>Characteristics / <br> / <br></b></b> Low clamping voltage / <br> / <br> After a surge impulse the varistor works immediately in normal mode so there is no slip current / <br> / <br> Excellent absorption at surge impulses / <br> / <br> Operating temperature: –40 ºC to +85 ºC for types up to 95 VRMS –40 ºC to +125 ºC for types from 115 VRMS / <br> / <br> Response time < 25 ns / <br> / <br> UL1449 3rd Edition, CSA and VDE approved UL: File E332875 CSA: File 224856 VDE: File 40016986 and 40016998 IEC: 60950-1: 2005 Annex Q from ∅ 10 mm / <br> / <br> / <br><b> Applications / <br> / <br></b> 12–48 VDC distribution / <br> / <br> 110–400 V power supply / <br> / <br> Leakage of voltage peaks / <br> / <br> Surge protection in accordance with EN 61000-4-5 / <br> / <br> / <br> / <br><a href="http://katalog.we-online.de/media/images/eisos/VarVD_pf2.jpg" title="Enlarge picture"> / <img src="http://katalog.we-online.de/media/images/eisos/VarVD_pf2.jpg" width="320"></a><p> / Details see: <a href="http://katalog.we-online.de/en/pbs/WE-VD?">http://katalog.we-online.de/en/pbs/WE-VD?</a><p> / Updated  by  Dan Xu 2014-07-11<br> / 2014 (C) Wurth Elektronik
MANUFACTURER: Würth Elektronik eiSos GmbH; CREATED-BY: Christin Zierenner; COMPANY-URL: http://www.we-online.de; CREATED-DATE: May 2012; DATASHEET-URL: http://katalog.we-online.de/kataloge/eisos/index.php?language=en&pf=WE-VD
footprint WE-VD_20MM-DIA
pins: 1, 2

## WE-VD_20MM,820426211
designator RV?, comment <b>WE-VD Disk Varistor / <br> / <br> / <br><b>Characteristics / <br> / <br></b></b> Low clamping voltage / <br> / <br> After a surge impulse the varistor works immediately in normal mode so there is no slip current / <br> / <br> Excellent absorption at surge impulses / <br> / <br> Operating temperature: –40 ºC to +85 ºC for types up to 95 VRMS –40 ºC to +125 ºC for types from 115 VRMS / <br> / <br> Response time < 25 ns / <br> / <br> UL1449 3rd Edition, CSA and VDE approved UL: File E332875 CSA: File 224856 VDE: File 40016986 and 40016998 IEC: 60950-1: 2005 Annex Q from ∅ 10 mm / <br> / <br> / <br><b> Applications / <br> / <br></b> 12–48 VDC distribution / <br> / <br> 110–400 V power supply / <br> / <br> Leakage of voltage peaks / <br> / <br> Surge protection in accordance with EN 61000-4-5 / <br> / <br> / <br> / <br><a href="http://katalog.we-online.de/media/images/eisos/VarVD_pf2.jpg" title="Enlarge picture"> / <img src="http://katalog.we-online.de/media/images/eisos/VarVD_pf2.jpg" width="320"></a><p> / Details see: <a href="http://katalog.we-online.de/en/pbs/WE-VD?">http://katalog.we-online.de/en/pbs/WE-VD?</a><p> / Updated  by  Dan Xu 2014-07-11<br> / 2014 (C) Wurth Elektronik
MANUFACTURER: Würth Elektronik eiSos GmbH; CREATED-BY: Christin Zierenner; COMPANY-URL: http://www.we-online.de; CREATED-DATE: May 2012; DATASHEET-URL: http://katalog.we-online.de/kataloge/eisos/index.php?language=en&pf=WE-VD
footprint WE-VD_20MM-3.8
pins: 1, 2

## WE-VD_20MM,820426811
designator RV?, comment <b>WE-VD Disk Varistor / <br> / <br> / <br><b>Characteristics / <br> / <br></b></b> Low clamping voltage / <br> / <br> After a surge impulse the varistor works immediately in normal mode so there is no slip current / <br> / <br> Excellent absorption at surge impulses / <br> / <br> Operating temperature: –40 ºC to +85 ºC for types up to 95 VRMS –40 ºC to +125 ºC for types from 115 VRMS / <br> / <br> Response time < 25 ns / <br> / <br> UL1449 3rd Edition, CSA and VDE approved UL: File E332875 CSA: File 224856 VDE: File 40016986 and 40016998 IEC: 60950-1: 2005 Annex Q from ∅ 10 mm / <br> / <br> / <br><b> Applications / <br> / <br></b> 12–48 VDC distribution / <br> / <br> 110–400 V power supply / <br> / <br> Leakage of voltage peaks / <br> / <br> Surge protection in accordance with EN 61000-4-5 / <br> / <br> / <br> / <br><a href="http://katalog.we-online.de/media/images/eisos/VarVD_pf2.jpg" title="Enlarge picture"> / <img src="http://katalog.we-online.de/media/images/eisos/VarVD_pf2.jpg" width="320"></a><p> / Details see: <a href="http://katalog.we-online.de/en/pbs/WE-VD?">http://katalog.we-online.de/en/pbs/WE-VD?</a><p> / Updated  by  Dan Xu 2014-07-11<br> / 2014 (C) Wurth Elektronik
MANUFACTURER: Würth Elektronik eiSos GmbH; CREATED-BY: Christin Zierenner; COMPANY-URL: http://www.we-online.de; CREATED-DATE: May 2012; DATASHEET-URL: http://katalog.we-online.de/kataloge/eisos/media/pdf/820426811.pdf
footprint WE-VD_20MM-4.3
pins: 1, 2

## WE-VD_20MM,820427501
designator RV?, comment <b>WE-VD Disk Varistor / <br> / <br> / <br><b>Characteristics / <br> / <br></b></b> Low clamping voltage / <br> / <br> After a surge impulse the varistor works immediately in normal mode so there is no slip current / <br> / <br> Excellent absorption at surge impulses / <br> / <br> Operating temperature: –40 ºC to +85 ºC for types up to 95 VRMS –40 ºC to +125 ºC for types from 115 VRMS / <br> / <br> Response time < 25 ns / <br> / <br> UL1449 3rd Edition, CSA and VDE approved UL: File E332875 CSA: File 224856 VDE: File 40016986 and 40016998 IEC: 60950-1: 2005 Annex Q from ∅ 10 mm / <br> / <br> / <br><b> Applications / <br> / <br></b> 12–48 VDC distribution / <br> / <br> 110–400 V power supply / <br> / <br> Leakage of voltage peaks / <br> / <br> Surge protection in accordance with EN 61000-4-5 / <br> / <br> / <br> / <br><a href="http://katalog.we-online.de/media/images/eisos/VarVD_pf2.jpg" title="Enlarge picture"> / <img src="http://katalog.we-online.de/media/images/eisos/VarVD_pf2.jpg" width="320"></a><p> / Details see: <a href="http://katalog.we-online.de/en/pbs/WE-VD?">http://katalog.we-online.de/en/pbs/WE-VD?</a><p> / Updated  by  Dan Xu 2014-07-11<br> / 2014 (C) Wurth Elektronik
MANUFACTURER: Würth Elektronik eiSos GmbH; CREATED-BY: Christin Zierenner; COMPANY-URL: http://www.we-online.de; CREATED-DATE: May 2012; DATASHEET-URL: http://katalog.we-online.de/kataloge/eisos/index.php?language=en&pf=WE-VD
footprint WE-VD_20MM-DIA
pins: 1, 2

## WE-VD_20MM,820429501
designator RV?, comment <b>WE-VD Disk Varistor / <br> / <br> / <br><b>Characteristics / <br> / <br></b></b> Low clamping voltage / <br> / <br> After a surge impulse the varistor works immediately in normal mode so there is no slip current / <br> / <br> Excellent absorption at surge impulses / <br> / <br> Operating temperature: –40 ºC to +85 ºC for types up to 95 VRMS –40 ºC to +125 ºC for types from 115 VRMS / <br> / <br> Response time < 25 ns / <br> / <br> UL1449 3rd Edition, CSA and VDE approved UL: File E332875 CSA: File 224856 VDE: File 40016986 and 40016998 IEC: 60950-1: 2005 Annex Q from ∅ 10 mm / <br> / <br> / <br><b> Applications / <br> / <br></b> 12–48 VDC distribution / <br> / <br> 110–400 V power supply / <br> / <br> Leakage of voltage peaks / <br> / <br> Surge protection in accordance with EN 61000-4-5 / <br> / <br> / <br> / <br><a href="http://katalog.we-online.de/media/images/eisos/VarVD_pf2.jpg" title="Enlarge picture"> / <img src="http://katalog.we-online.de/media/images/eisos/VarVD_pf2.jpg" width="320"></a><p> / Details see: <a href="http://katalog.we-online.de/en/pbs/WE-VD?">http://katalog.we-online.de/en/pbs/WE-VD?</a><p> / Updated  by  Dan Xu 2014-07-11<br> / 2014 (C) Wurth Elektronik
MANUFACTURER: Würth Elektronik eiSos GmbH; CREATED-BY: Christin Zierenner; COMPANY-URL: http://www.we-online.de; CREATED-DATE: May 2012; DATASHEET-URL: http://katalog.we-online.de/kataloge/eisos/index.php?language=en&pf=WE-VD
footprint WE-VD_20MM-DIA
pins: 1, 2

## WE-VD_20MM,820521021
designator RV?, comment <b>WE-VD Disk Varistor / <br> / <br> / <br><b>Characteristics / <br> / <br></b></b> Low clamping voltage / <br> / <br> After a surge impulse the varistor works immediately in normal mode so there is no slip current / <br> / <br> Excellent absorption at surge impulses / <br> / <br> Operating temperature: –40 ºC to +85 ºC for types up to 95 VRMS –40 ºC to +125 ºC for types from 115 VRMS / <br> / <br> Response time < 25 ns / <br> / <br> UL1449 3rd Edition, CSA and VDE approved UL: File E332875 CSA: File 224856 VDE: File 40016986 and 40016998 IEC: 60950-1: 2005 Annex Q from ∅ 10 mm / <br> / <br> / <br><b> Applications / <br> / <br></b> 12–48 VDC distribution / <br> / <br> 110–400 V power supply / <br> / <br> Leakage of voltage peaks / <br> / <br> Surge protection in accordance with EN 61000-4-5 / <br> / <br> / <br> / <br><a href="http://katalog.we-online.de/media/images/eisos/VarVD_pf2.jpg" title="Enlarge picture"> / <img src="http://katalog.we-online.de/media/images/eisos/VarVD_pf2.jpg" width="320"></a><p> / Details see: <a href="http://katalog.we-online.de/en/pbs/WE-VD?">http://katalog.we-online.de/en/pbs/WE-VD?</a><p> / Updated  by  Dan Xu 2014-07-11<br> / 2014 (C) Wurth Elektronik
MANUFACTURER: Würth Elektronik eiSos GmbH; CREATED-BY: Christin Zierenner; COMPANY-URL: http://www.we-online.de; CREATED-DATE: May 2012; DATASHEET-URL: http://katalog.we-online.de/kataloge/eisos/index.php?language=en&pf=WE-VD
footprint WE-VD_20MM-10.4
pins: 1, 2

## WE-VD_20MM,820521102
designator RV?, comment <b>WE-VD Disk Varistor / <br> / <br> / <br><b>Characteristics / <br> / <br></b></b> Low clamping voltage / <br> / <br> After a surge impulse the varistor works immediately in normal mode so there is no slip current / <br> / <br> Excellent absorption at surge impulses / <br> / <br> Operating temperature: –40 ºC to +85 ºC for types up to 95 VRMS –40 ºC to +125 ºC for types from 115 VRMS / <br> / <br> Response time < 25 ns / <br> / <br> UL1449 3rd Edition, CSA and VDE approved UL: File E332875 CSA: File 224856 VDE: File 40016986 and 40016998 IEC: 60950-1: 2005 Annex Q from ∅ 10 mm / <br> / <br> / <br><b> Applications / <br> / <br></b> 12–48 VDC distribution / <br> / <br> 110–400 V power supply / <br> / <br> Leakage of voltage peaks / <br> / <br> Surge protection in accordance with EN 61000-4-5 / <br> / <br> / <br> / <br><a href="http://katalog.we-online.de/media/images/eisos/VarVD_pf2.jpg" title="Enlarge picture"> / <img src="http://katalog.we-online.de/media/images/eisos/VarVD_pf2.jpg" width="320"></a><p> / Details see: <a href="http://katalog.we-online.de/en/pbs/WE-VD?">http://katalog.we-online.de/en/pbs/WE-VD?</a><p> / Updated  by  Dan Xu 2014-07-11<br> / 2014 (C) Wurth Elektronik
MANUFACTURER: Würth Elektronik eiSos GmbH; CREATED-BY: Christin Zierenner; COMPANY-URL: http://www.we-online.de; CREATED-DATE: May 2012; DATASHEET-URL: http://katalog.we-online.de/kataloge/eisos/index.php?language=en&pf=WE-VD
footprint WE-VD_20MM-DIA
pins: 1, 2

## WE-VD_20MM,820521111
designator RV?, comment <b>WE-VD Disk Varistor / <br> / <br> / <br><b>Characteristics / <br> / <br></b></b> Low clamping voltage / <br> / <br> After a surge impulse the varistor works immediately in normal mode so there is no slip current / <br> / <br> Excellent absorption at surge impulses / <br> / <br> Operating temperature: –40 ºC to +85 ºC for types up to 95 VRMS –40 ºC to +125 ºC for types from 115 VRMS / <br> / <br> Response time < 25 ns / <br> / <br> UL1449 3rd Edition, CSA and VDE approved UL: File E332875 CSA: File 224856 VDE: File 40016986 and 40016998 IEC: 60950-1: 2005 Annex Q from ∅ 10 mm / <br> / <br> / <br><b> Applications / <br> / <br></b> 12–48 VDC distribution / <br> / <br> 110–400 V power supply / <br> / <br> Leakage of voltage peaks / <br> / <br> Surge protection in accordance with EN 61000-4-5 / <br> / <br> / <br> / <br><a href="http://katalog.we-online.de/media/images/eisos/VarVD_pf2.jpg" title="Enlarge picture"> / <img src="http://katalog.we-online.de/media/images/eisos/VarVD_pf2.jpg" width="320"></a><p> / Details see: <a href="http://katalog.we-online.de/en/pbs/WE-VD?">http://katalog.we-online.de/en/pbs/WE-VD?</a><p> / Updated  by  Dan Xu 2014-07-11<br> / 2014 (C) Wurth Elektronik
MANUFACTURER: Würth Elektronik eiSos GmbH; CREATED-BY: Christin Zierenner; COMPANY-URL: http://www.we-online.de; CREATED-DATE: May 2012; DATASHEET-URL: http://katalog.we-online.de/kataloge/eisos/index.php?language=en&pf=WE-VD
footprint WE-VD_20MM-DIA
pins: 1, 2